# Altium footprint library Package_TO_SOT_SMD.PcbLib: 132 footprints (part 6 of 9)
Each footprint in its own frame and in the unit in brackets; x right, y up, seen from the top. Pads: shape width x height; smd on the part's side, far side on the other; paste and mask are expansions set on the pad; w line width, h text height; cw(c..) or ccw(c..) is an arc to the next point about the centre after c.
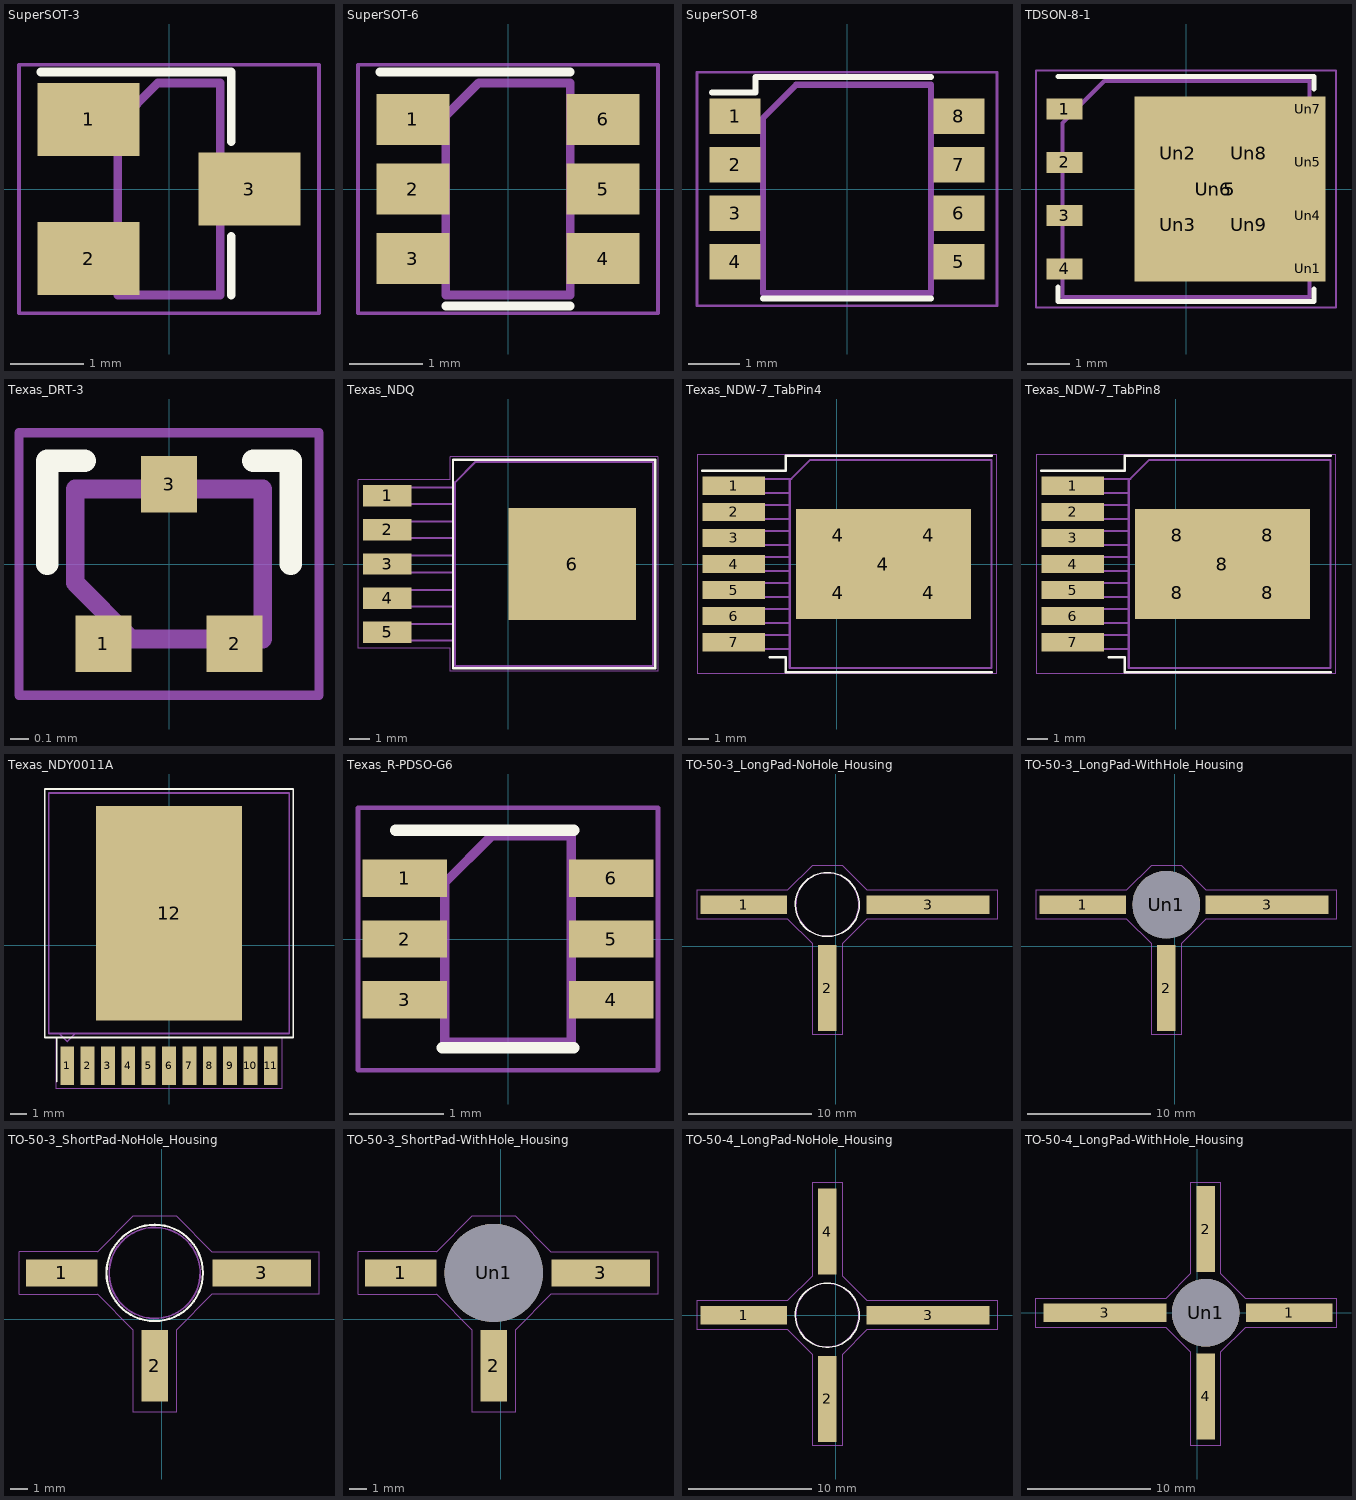
[diagram p5: the footprints below, top view; thin cyan lines are the x and y axes]

## SuperSOT-3 [mm]
pads (3):
  rect 1.4x1 smd: 1(-1.1,0.95) 2(-1.1,-0.95) 3(1.1,0)
F.SilkS:
  lines w0.12: -1.75,1.6 0.85,1.6 0.85,0.65 ; 0.85,-1.45 0.85,-0.65
F.CrtYd:
  lines w0.05: -2.05,-1.7 2.05,-1.7 2.05,1.7 -2.05,1.7 -2.05,-1.7
F.Fab:
  lines w0.12: -0.7,-1.45 0.7,-1.45 0.7,1.45 -0.15,1.45 -0.7,0.9 -0.7,-1.45
  text "'.Designator'" at 0.42,-2.023 h0.5

## SuperSOT-6 [mm]
pads (6):
  rect 1x0.7 smd: 1(-1.3,0.95) 2(-1.3,0) 3(-1.3,-0.95) 4(1.3,-0.95) 5(1.3,0) 6(1.3,0.95)
F.SilkS:
  lines w0.12: -1.75,1.6 0.85,1.6 ; -0.85,-1.6 0.85,-1.6
F.CrtYd:
  lines w0.05: -2.05,-1.7 2.05,-1.7 2.05,1.7 -2.05,1.7 -2.05,-1.7
F.Fab:
  lines w0.12: -0.85,-1.45 -0.85,1 -0.4,1.45 0.85,1.45 0.85,-1.45 -0.85,-1.45
  text "'.Designator'" at 0.42,-2.023 h0.5

## SuperSOT-8 [mm]
pads (8):
  rect 1x0.7 smd: 1(-2.2,1.427) 2(-2.2,0.475) 3(-2.2,-0.475) 4(-2.2,-1.427) 5(2.2,-1.427) 6(2.2,-0.475) 7(2.2,0.475) 8(2.2,1.427)
F.SilkS:
  lines w0.12: -2.65,1.9 -1.8,1.9 -1.8,2.2 1.65,2.2 ; -1.65,-2.15 1.65,-2.15
F.CrtYd:
  lines w0.05: -2.95,-2.3 2.95,-2.3 2.95,2.3 -2.95,2.3 -2.95,-2.3
F.Fab:
  lines w0.12: -1.65,-2.05 1.65,-2.05 1.65,2.05 -1,2.05 -1.65,1.4 -1.65,-2.05
  text "'.Designator'" at -2.023,-0.42 h0.5

## TDSON-8-1 [mm]
pads (14):
  rect 0.85x0.5 smd: 1(-2.9,1.905) 2(-2.9,0.635) 3(-2.9,-0.635) 4(-2.9,-1.905)
  rect 4.55x4.41 smd: 5(1.05,0)
  rect 0.75x0.5 on Top Paste: Un1(2.905,-1.905) Un4(2.905,-0.635) Un5(2.905,0.635) Un7(2.905,1.905)
  rect 1.5x1.5 on Top Paste: Un2(-0.2,0.85) Un3(-0.2,-0.85) Un8(1.5,0.85) Un9(1.5,-0.85)
  rect 3.75x4.41 on Top Solder: Un6(0.65,0)
F.SilkS:
  lines w0.12: -3.06,-2.335 -3.06,-2.685 3.06,-2.685 3.06,-2.385 ; -3.06,2.685 3.06,2.685 3.06,2.385
F.Mask:
  region: 3.325,1.605 2.525,1.605 2.525,2.205 3.325,2.205
  region: 3.325,0.335 2.525,0.335 2.525,0.935 3.325,0.935
  region: 3.325,-0.935 2.525,-0.935 2.525,-0.335 3.325,-0.335
  region: 3.325,-2.205 2.525,-2.205 2.525,-1.605 3.325,-1.605
F.CrtYd:
  lines w0.05: -3.58,-2.83 3.58,-2.83 3.58,2.83 -3.58,2.83 -3.58,-2.83
F.Fab:
  lines w0.1: -2.95,-2.575 -2.95,1.575 -1.95,2.575 2.95,2.575 2.95,-2.575 -2.95,-2.575
  text "'.Designator'" at -4.047,-0.84 h1

## Texas_DRT-3 [mm]
pads (3):
  rect 0.3x0.3 smd: 1(-0.35,-0.425) 2(0.35,-0.425) 3(0,0.425)
F.SilkS:
  lines w0.12: -0.65,0 -0.65,0.55 -0.45,0.55 ; 0.45,0.55 0.65,0.55 0.65,0
F.CrtYd:
  lines w0.05: -0.8,-0.7 -0.8,0.7 0.8,0.7 0.8,-0.7 -0.8,-0.7
F.Fab:
  lines w0.1: -0.5,-0.1 -0.5,0.4 0.5,0.4 0.5,-0.4 -0.2,-0.4 -0.5,-0.1
  text "'.Designator'" at -4.047,0.66 h1

## Texas_NDQ [mm]
pads (6):
  rect 2.41x1.07 smd: 1(-6.017,3.4) 2(-6.017,1.7) 3(-6.017,0) 4(-6.017,-1.7) 5(-6.017,-3.4)
  rect 6.35x5.59 smd: 6(3.207,0)
F.SilkS:
  lines w0.12: -2.738,-5.19 7.332,-5.19 7.332,5.19 -2.738,5.19 -2.738,-5.19
F.CrtYd:
  lines w0.05: -7.47,-4.19 -2.88,-4.19 -2.88,-5.33 7.47,-5.33 7.47,5.33 -2.88,5.33 -2.88,4.19 -7.47,4.19 -7.47,-4.19
F.Fab:
  lines w0.1: -2.628,-3.815 -6.787,-3.815 -6.787,-2.985 -2.628,-2.985 ; -2.628,-2.115 -6.787,-2.115 -6.787,-1.285 -2.628,-1.285 ; -2.628,-0.415 -6.787,-0.415 -6.787,0.415 -2.628,0.415 ; -2.628,1.285 -6.787,1.285 -6.787,2.115 -2.628,2.115 ; -2.628,2.985 -6.787,2.985 -6.787,3.815 -2.628,3.815 ; -2.628,-5.08 -2.628,4.08 -1.627,5.08 7.223,5.08 7.223,-5.08 -2.628,-5.08
  text "'.Designator'" at -1.547,-0.84 h1

## Texas_NDW-7_TabPin4 [mm]
pads (12):
  rect 3.06x0.89 smd: 1(-5.022,3.81) 2(-5.022,2.54) 3(-5.022,1.27) 4(-5.022,0) 5(-5.022,-1.27) 6(-5.022,-2.54) 7(-5.022,-3.81)
  rect 4.12x2.525 smd: 4(0.072,-1.412) 4(0.072,1.412) 4(4.493,-1.412) 4(4.493,1.412)
  rect 8.54x5.35 smd: 4(2.282,0)
F.SilkS:
  lines w0.12: -6.552,4.555 -2.488,4.555 -2.488,5.28 7.562,5.28 ; -3.255,-4.555 -2.488,-4.555 -2.488,-5.28 7.562,-5.28
F.CrtYd:
  lines w0.05: -6.81,-5.33 7.82,-5.33 7.82,5.33 -6.81,5.33 -6.81,-5.33
F.Fab:
  lines w0.1: -2.288,-4.155 -6.208,-4.155 -6.208,-3.465 -2.288,-3.465 ; -2.288,-2.885 -6.208,-2.885 -6.208,-2.195 -2.288,-2.195 ; -2.288,-1.615 -6.208,-1.615 -6.208,-0.925 -2.288,-0.925 ; -2.288,-0.345 -6.208,-0.345 -6.208,0.345 -2.288,0.345 ; -2.288,0.925 -6.208,0.925 -6.208,1.615 -2.288,1.615 ; -2.288,2.195 -6.208,2.195 -6.208,2.885 -2.288,2.885 ; -2.288,3.465 -6.208,3.465 -6.208,4.155 -2.213,4.155 ; -2.288,-5.08 7.562,-5.08 7.562,5.08 -1.288,5.08 -2.288,4.08 -2.288,-5.08
  text "'.Designator'" at -4.047,-0.84 h1

## Texas_NDW-7_TabPin8 [mm]
pads (12):
  rect 3.06x0.89 smd: 1(-5.022,3.81) 2(-5.022,2.54) 3(-5.022,1.27) 4(-5.022,0) 5(-5.022,-1.27) 6(-5.022,-2.54) 7(-5.022,-3.81)
  rect 4.12x2.525 smd: 8(0.072,-1.412) 8(0.072,1.412) 8(4.493,-1.412) 8(4.493,1.412)
  rect 8.54x5.35 smd: 8(2.282,0)
F.SilkS:
  lines w0.12: -6.552,4.555 -2.488,4.555 -2.488,5.28 7.562,5.28 ; -3.255,-4.555 -2.488,-4.555 -2.488,-5.28 7.562,-5.28
F.CrtYd:
  lines w0.05: -6.81,-5.33 7.82,-5.33 7.82,5.33 -6.81,5.33 -6.81,-5.33
F.Fab:
  lines w0.1: -2.288,-4.155 -6.208,-4.155 -6.208,-3.465 -2.288,-3.465 ; -2.288,-2.885 -6.208,-2.885 -6.208,-2.195 -2.288,-2.195 ; -2.288,-1.615 -6.208,-1.615 -6.208,-0.925 -2.288,-0.925 ; -2.288,-0.345 -6.208,-0.345 -6.208,0.345 -2.288,0.345 ; -2.288,0.925 -6.208,0.925 -6.208,1.615 -2.288,1.615 ; -2.288,2.195 -6.208,2.195 -6.208,2.885 -2.288,2.885 ; -2.288,3.465 -6.208,3.465 -6.208,4.155 -2.213,4.155 ; -2.288,-5.08 7.562,-5.08 7.562,5.08 -1.288,5.08 -2.288,4.08 -2.288,-5.08
  text "'.Designator'" at -4.047,-0.84 h1

## Texas_NDY0011A [mm]
pads (12):
  rect 0.86x2.41 smd: 1(-6.35,-7.49) 2(-5.08,-7.49) 3(-3.81,-7.49) 4(-2.54,-7.49) 5(-1.27,-7.49) 6(0,-7.49) 7(1.27,-7.49) 8(2.54,-7.49) 9(3.81,-7.49) 10(5.08,-7.49) 11(6.35,-7.49)
  rect 9.126x13.37 smd: 12(0,2.01)
F.SilkS:
  lines w0.12: -7,-8.5 -7,-5.75 ; -7.75,-5.74 -7.75,9.76 7.75,9.76 7.75,-5.74 -7.75,-5.74
F.CrtYd:
  lines w0.05: -7.75,-5.74 -7.03,-5.74 -7.03,-8.95 7.03,-8.95 7.03,-5.74 7.75,-5.74 7.75,9.76 -7.75,9.76 -7.75,-5.74
F.Fab:
  lines w0.1: -6.85,-5.49 -6.35,-5.99 -5.85,-5.49 ; -7.5,-5.49 7.5,-5.49 7.5,9.51 -7.5,9.51 -7.5,-5.49
  text "'.Designator'" at -4.047,1.17 h1

## Texas_R-PDSO-G6 [mm]
pads (6):
  rect 0.9x0.4 smd: 1(-1.1,0.65) 2(-1.1,0) 3(-1.1,-0.65) 4(1.1,-0.65) 5(1.1,0) 6(1.1,0.65)
F.SilkS:
  lines w0.12: -1.2,1.16 0.7,1.16 ; -0.7,-1.16 0.7,-1.16
F.CrtYd:
  lines w0.05: -1.6,-1.4 1.6,-1.4 1.6,1.4 -1.6,1.4 -1.6,-1.4
F.Fab:
  lines w0.1: -0.675,-1.1 -0.675,0.6 -0.175,1.1 0.675,1.1 0.675,-1.1 -0.675,-1.1
  text "'.Designator'" at 0.42,-2.023 h0.5

## TO-50-3_LongPad-NoHole_Housing [mm]
pads (3):
  rect 7x1.5 smd: 1(-7.5,3.4)
  rect 1.5x7 smd: 2(-0.7,-3.4)
  rect 10x1.5 smd: 3(7.5,3.4)
F.SilkS:
  circle w0.12: c-0.7,3.4 r2.6
F.CrtYd:
  lines w0.05: -11.3,2.2 -3.9,2.2 -1.9,0.2 -1.9,-7.2 0.5,-7.2 0.5,0.2 2.5,2.2 13.1,2.2 13.1,4.6 2.5,4.6 0.5,6.6 -1.9,6.6 -3.9,4.6 -11.3,4.6 -11.3,2.2
F.Fab:
  circle w0.1: c-0.7,3.4 r2.55
  text "'.Designator'" at -4.747,2.56 h1

## TO-50-3_LongPad-WithHole_Housing [mm]
pads (4):
  rect 7x1.5 smd: 1(-7.5,3.4)
  rect 1.5x7 smd: 2(-0.7,-3.4)
  rect 10x1.5 smd: 3(7.5,3.4)
  round 5.5 hole 5.5: Un1(-0.7,3.4)
F.CrtYd:
  lines w0.05: -11.3,2.2 -3.9,2.2 -1.9,0.2 -1.9,-7.2 0.5,-7.2 0.5,0.2 2.5,2.2 13.1,2.2 13.1,4.6 2.5,4.6 0.5,6.6 -1.9,6.6 -3.9,4.6 -11.3,4.6 -11.3,2.2
F.Fab:
  circle w0.1: c-0.7,3.4 r2.55
  text "'.Designator'" at -4.747,2.56 h1

## TO-50-3_ShortPad-NoHole_Housing [mm]
pads (3):
  rect 4x1.5 smd: 1(-5.6,2.6)
  rect 1.5x4 smd: 2(-0.4,-2.6)
  rect 5.5x1.5 smd: 3(5.6,2.6)
F.SilkS:
  circle w0.12: c-0.4,2.6 r2.7
F.CrtYd:
  lines w0.05: -8,1.4 -8,3.8 -3.6,3.8 -1.6,5.8 0.8,5.8 2.8,3.8 8.8,3.8 8.8,1.4 2.8,1.4 0.8,-0.6 0.8,-5.2 -1.6,-5.2 -1.6,-0.6 -3.6,1.4 -8,1.4
F.Fab:
  circle w0.1: c-0.4,2.6 r2.55
  text "'.Designator'" at -4.447,1.76 h1

## TO-50-3_ShortPad-WithHole_Housing [mm]
pads (4):
  rect 4x1.5 smd: 1(-5.6,2.6)
  rect 1.5x4 smd: 2(-0.4,-2.6)
  rect 5.5x1.5 smd: 3(5.6,2.6)
  round 5.5 hole 5.5: Un1(-0.4,2.6)
F.CrtYd:
  lines w0.05: -8,1.4 -3.6,1.4 -1.6,-0.6 -1.6,-5.2 0.8,-5.2 0.8,-0.6 2.8,1.4 8.8,1.4 8.8,3.8 2.8,3.8 0.8,5.8 -1.6,5.8 -3.6,3.8 -8,3.8 -8,1.4
F.Fab:
  circle w0.1: c-0.4,2.6 r2.55
  text "'.Designator'" at -4.447,1.76 h1

## TO-50-4_LongPad-NoHole_Housing [mm]
pads (4):
  rect 7x1.5 smd: 1(-7.5,0)
  rect 1.5x7 smd: 2(-0.7,-6.8) 4(-0.7,6.8)
  rect 10x1.5 smd: 3(7.5,0)
F.SilkS:
  circle w0.12: c-0.7,0 r2.6
F.CrtYd:
  lines w0.05: -11.3,-1.2 -3.9,-1.2 -1.9,-3.2 -1.9,-10.6 0.5,-10.6 0.5,-3.2 2.5,-1.2 13.1,-1.2 13.1,1.2 2.5,1.2 0.5,3.2 0.5,10.8 -1.9,10.8 -1.9,3.2 -3.9,1.2 -11.3,1.2 -11.3,-1.2
F.Fab:
  circle w0.1: c-0.7,0 r2.55
  text "'.Designator'" at -3.297,-0.84 h1

## TO-50-4_LongPad-WithHole_Housing [mm]
pads (5):
  rect 7x1.5 smd: 1(7.5,0)
  rect 1.5x7 smd: 2(0.7,6.8) 4(0.7,-6.8)
  rect 10x1.5 smd: 3(-7.5,0)
  round 5.5 hole 5.5: Un1(0.7,0)
F.CrtYd:
  lines w0.05: -13.1,-1.2 -2.5,-1.2 -0.5,-3.2 -0.5,-10.8 1.9,-10.8 1.9,-3.2 3.9,-1.2 11.3,-1.2 11.3,1.2 3.9,1.2 1.9,3.2 1.9,10.6 -0.5,10.6 -0.5,3.2 -2.5,1.2 -13.1,1.2 -13.1,-1.2
F.Fab:
  circle w0.1: c0.7,0 r2.55
  text "'.Designator'" at -4.797,-0.84 h1